# Altium schematic symbol library V_NB-IoT_3.1.SCHLIB: 97 symbols (part 1 of 2)
Pins are listed as number, name and electrical type; pins without a type are passive.

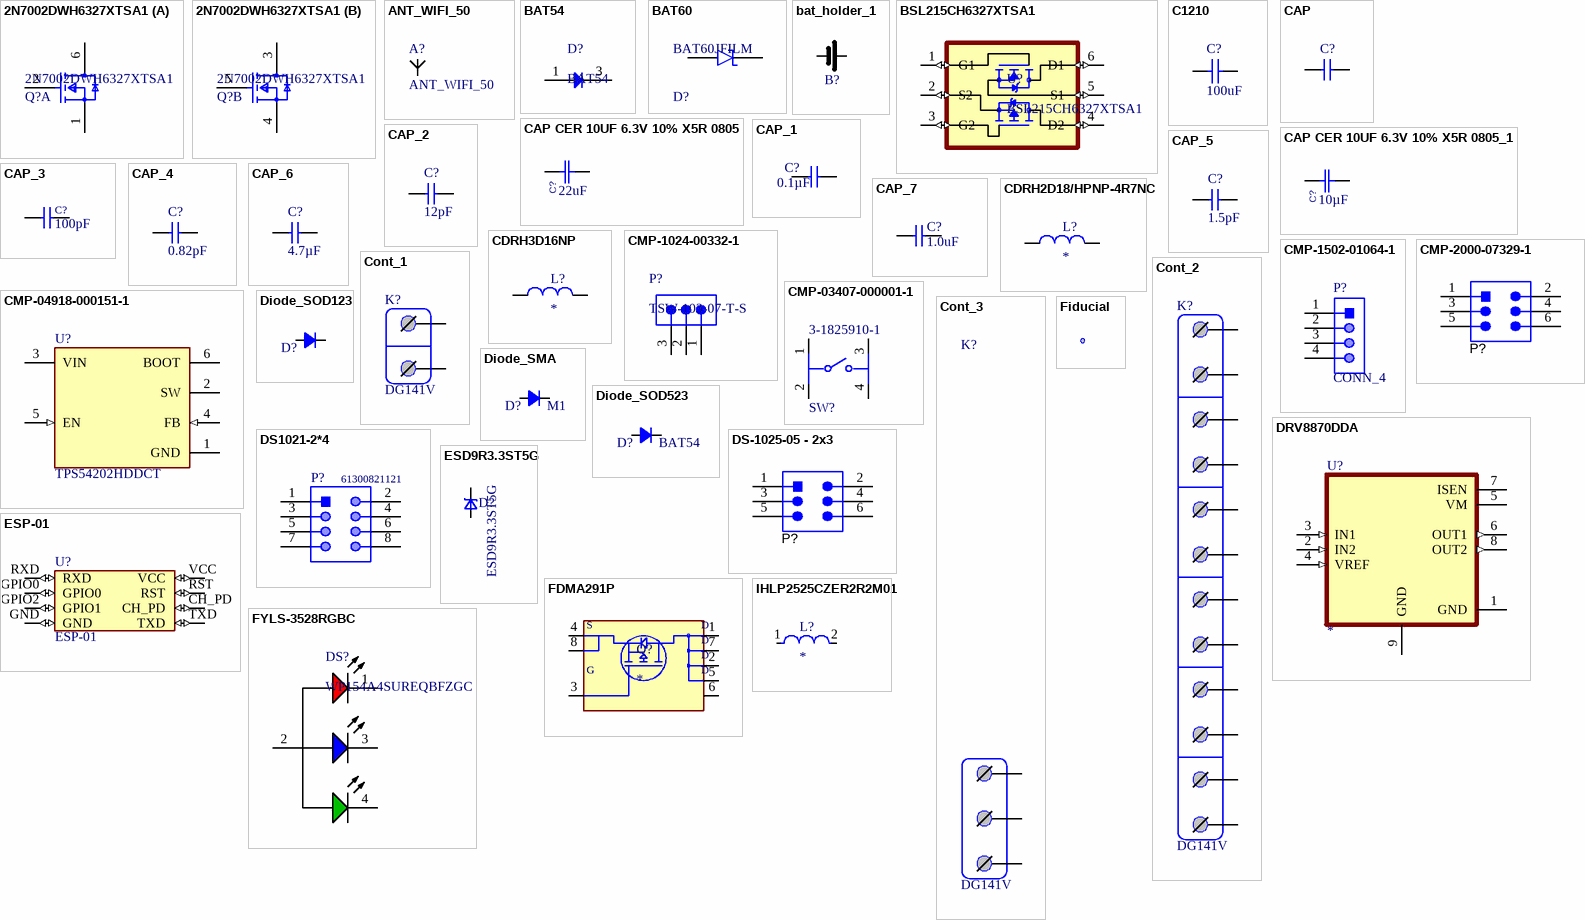
[diagram p0: symbols 2N7002DWH6327XTSA1 to IHLP2525CZER2R2M01]

## 2N7002DWH6327XTSA1
designator Q?
MOSFET 2N-CH 60V 0.3A SOT363; Rise Time: 3.3ns; Turn-On Delay Time: 3ns; Continuous Drain Current (ID): 300mA; FET Type: 2 N-Channel; Input Capacitance: 20pF; Power Dissipation: 500mW; Number of Elements: 2; Gate to Source Voltage (Vgs): 20V; Rds On Max: 3R; Fall Time: 3.1ns; Turn-Off Delay Time: 5.5ns; Mount: Surface Mount; Lead Free: Lead Free; REACH SVHC: No SVHC; Halogen Free: Halogen Free; Drain to Source Voltage (Vdss): 60V; Packaging: Tape and Reel; Max Power Dissipation: 500mW; Number of Pins: 6; Max Dual Supply Voltage: 60V; Case/Package: SOT-363-6; Max Operating Temperature: 150°C; Min Operating Temperature: -55°C
footprint FP-PG-SOT363-6-IPC_B
footprint FP-PG-SOT363-6-IPC_A
footprint FP-PG-SOT363-6-MFG
footprint FP-PG-SOT363-6-IPC_C
part A pins: 1 S1, 2 G1, 6 D1
part B pins: 3 D2, 4 S2, 5 G2

## ANT_WIFI_50
designator A?
footprint AN9520 (wifi antenna)
footprint ANT_WIFI_PCB_1
footprint ANT_BLE_1
footprint ANT_BLE_2
pins: 1 ANT

## BAT54
designator D?
Silicon Schottky Diode, SOT23, Reel, Green; Manufacturer: Infineon; VF (max): 800Â mV; Configuration: Single; IF (max): 200Â mA; CT (max): 10Â pF; Green: TRUE; VR (max): 30Â V; PartNumber: BAT54; ComponentLink2URL: http://www.infineon.com/dgdl/bat54series.pdf?folderId=db3a30431400ef68011425f1ca2505e3&fileId=db3a304314dca3890115190b74210ea6; ComponentLink3Description: Package Specification; PackageVersion: Apr-08; PackageDescription: 3-Pin Small Outline Transistor Package, 1.3 x 2.9 mm Body, 0.95 mm Pitch; ComponentLink1Description: Manufacturer URL; ComponentLink1URL: http://www.infineon.com/; Mounting Technology: Surface Mount; Packing: Reel; ComponentLink2Description: Datasheet; PackageReference: SOT23; ComponentLink3URL: http://www.infineon.com/dgdl/SOT23-Package_Overview.pdf?folderId=db3a30431936bc4b0119532290053c66&fileId=db3a30431936bc4b0119533468123c85
footprint SOT-23
pins: 1 A, 3 K

## BAT60
designator D?, comment BAT60JFILM
DIODE SCHOTTKY 10V 3A SOD323; Max Forward Surge Current (Ifsm): 5A; Forward Voltage: 580mV; Max Reverse Leakage Current: 7.5uA; Element Configuration: Single; Polarity: Standard; Output Current: 3A; Contact Plating: Tin; Package Quantity: 1; Mount: Surface Mount; Min Operating Temperature: -65°C; Average Rectified Current: 3A; Packaging: Tape and Reel; Forward Current: 3A; Height: 1.07mm; Length: 1.8mm; REACH SVHC: No SVHC; Peak Non-Repetitive Surge Current: 5A; Max Surge Current: 5A; Width: 1.45mm; Current Rating: 3A; Lead Free: Lead Free; Radiation Hardening: No; Max Reverse Voltage (DC): 10V; Peak Reverse Current: 7.5uA; Voltage Rating (DC): 10V; Max Operating Temperature: 150°C; Max Repetitive Reverse Voltage (Vrrm): 10V; Number of Pins: 2; Weight: 0.01lb
footprint SOD-323
pins: 1 K, 2 A

## bat_holder_1
designator B?, comment BATTERY CLIP 18MM 18650 CELL  (value not drawn)
Manufacturer: Keystone; Manufacturer Part Number: 54; Note: BATTERY CLIP 18MM 18650 CELL
footprint 12BH092
footprint 12BH092_true
footprint 54_KeyStone
footprint 54_KeyStone_1
pins: + 2 (power), - 0 (power) "battery holder"

## BSL215CH6327XTSA1
designator U?
MOSFET, AEC-Q101, COMPLEMENT N&P, TSOP-6; Manufacturer: Infineon; Manufacturer Part Number: BSL215CH6327XTSA1; Note: MOSFET, AEC-Q101, COMPLEMENT N&P, TSOP-6
footprint SOT95P280X140-6N
pins: 1 G1 (io), 2 S2 (io), 3 G2 (io), 4 D2 (io), 5 S1 (io), 6 D1 (io)

## C1210
designator C?, comment 100uF
Capacitor 1210 100uF ±10% X5R 6,3V; Manufacturer: Samsung; Manufacturer Part Number: CL32A107MQVNNNE; Value: 100uF; Note: Capacitor 1210 100uF ±10% X5R 6,3V
footprint C1210
pins: 1, 2

## CAP
designator C?
footprint CAPC1005X04L
footprint R0603
footprint C0805
footprint C1210
footprint 1206 (Chip Capacitor, 2-Leads, Body 3.5x1.9mm, IPC High Density)
pins: 1, 2

## CAP CER 10UF 6.3V 10% X5R 0805
designator C?, comment Capacitance: 22uF  (hidden comment: 10µF)
CAP CER 10UF 6.3V 10% X5R 0805; Manufacturer: Samsung; Manufacturer Part Number: CL21A106KAYNNNE; Voltage - Rated: 25V; Value: 22uF; Note: Capacitor 0805 10UF 25V X5R 0805; Supplier 1: Digi-Key; Supplier Part Number 1: 399-3138-2-ND; RoHS: RoHS Compliant; Category: Capacitors; Stock 1: 522000; Pricing 1: 3000=0.0484, 6000=0.044, 9000=0.0418, 15000=0.0396, 30000=0.0374, 75000=0.0352, 150000=0.0297 (USD); Tolerance: ±10%; Temperature Coefficient: X5R; Mounting Type: Surface Mount, MLCC; Operating Temperature: -55°C ~ 85°C; Applications: General Purpose; Ratings: -; Package / Case: 0805 (2012 Metric); Size / Dimension: 0.079" L x 0.049" W (2.00mm x 1.25mm); Height - Seated (Max): -; Thickness (Max): 0.055" (1.40mm); Lead Spacing: -; Features: -; Packaging: Tape & Reel (TR); Lead Style: -; ComponentLink1URL: http://www.kemet.com/datasheets&C0805C106K9PACTU; ComponentLink1Description: http://www.kemet.com/datasheets&C0805C106K9PACTU
footprint C0805 (Chip Resistor; Body 2.0 x 1.3 mm (LxW typ))
pins: 1, 2

## CAP CER 10UF 6.3V 10% X5R 0805_1
designator C?, comment 10µF
CAP CER 10UF 6.3V 10% X5R 0805; Manufacturer: Samsung; Manufacturer Part Number: CL21A106KAYNNNE; Voltage - Rated: 25V; Note: Capacitor 0805 10UF 25V X5R 0805; Supplier 1: Digi-Key; Supplier Part Number 1: 399-3138-2-ND; RoHS: RoHS Compliant; Category: Capacitors; Stock 1: 522000; Pricing 1: 3000=0.0484, 6000=0.044, 9000=0.0418, 15000=0.0396, 30000=0.0374, 75000=0.0352, 150000=0.0297 (USD); Tolerance: ±10%; Temperature Coefficient: X5R; Mounting Type: Surface Mount, MLCC; Operating Temperature: -55°C ~ 85°C; Applications: General Purpose; Ratings: -; Package / Case: 0805 (2012 Metric); Size / Dimension: 0.079" L x 0.049" W (2.00mm x 1.25mm); Height - Seated (Max): -; Thickness (Max): 0.055" (1.40mm); Lead Spacing: -; Features: -; Packaging: Tape & Reel (TR); Lead Style: -; ComponentLink1URL: http://www.kemet.com/datasheets&C0805C106K9PACTU; ComponentLink1Description: http://www.kemet.com/datasheets&C0805C106K9PACTU; Capacitance: 10µF
footprint C0805 (Chip Resistor; Body 2.0 x 1.3 mm (LxW typ))
pins: 1, 2

## CAP_1
designator C?, comment 0.1µF
Capacitor, X7R, ±10%; Part Number: C0402-100n; Manufacturer: Samsung; Manufacturer Part Number: CL05A104KA5NNNC; Note: Capacitor 0402 0.1µF ±10% X5R 25V; Artikkelnr Noca: 20039200; Datasheet: *; Footprint: 0402; LatestRevisionDate: 2009-11-23; Pin Count: 2; Publisher: Nordic Semiconductor; Published: 2009-05-08; Value: 0.1µF; Supplier: *; Supplier part number: *; 2nd source Supplier: *; 2nd source part number: *
footprint CAPC1005X04L
pins: 1, 2

## CAP_2
designator C?, comment 12pF
Capacitor, NP0, ±2%; Part Number: C0402-12p; Manufacturer: Samsung; Manufacturer Part Number: CL05C120JB5NNNC; Note: Capacitor 0402 12pF ±2% NP0 50V; Artikkelnr Noca: 20029159; Datasheet: *; Footprint: 0402; LatestRevisionDate: 2011-05-11; Pin Count: 2; Publisher: Nordic Semiconductor; Published: 2009-05-08; Value: 12pF; Supplier: *; Supplier part number: *; 2nd source Supplier: *; 2nd source part number: *
footprint CAPC1005X04L
pins: 1, 2

## CAP_3
designator C?, comment 100pF
Capacitor, X7R, ±10%; Part Number: C0402-100n; Manufacturer: Samsung; Manufacturer Part Number: CL05C101JC51PNC; Note: Capacitor 0402 100pF ±5% NP0 100V; Artikkelnr Noca: 20039200; Datasheet: *; Footprint: 0402; LatestRevisionDate: 2009-11-23; Pin Count: 2; Publisher: Nordic Semiconductor; Published: 2009-05-08; Value: 100pF; Supplier: *; Supplier part number: *; 2nd source Supplier: *; 2nd source part number: *
footprint CAPC1005X04L
pins: 1, 2

## CAP_4
designator C?, comment 0.82pF
Capacitor, NP0, ±0.1pF; Part Number: C0402-1.0p; Manufacturer: Yageo; Manufacturer Part Number: CC0402BRNPO9BNR82; Note: Capacitor 0402 0.82pF ±0,1pF NP0 50V; Artikkelnr Noca: 20029140; Artikkelnr Simpro: N.A.; Datasheet: *; LatestRevisionDate: 2009-11-23; Pin Count: 2; Publisher: Nordic Semiconductor; Published: 2009-05-08; Value: 0.82pF; Supplier: *; Supplier part number: *; 2nd source Supplier: *; 2nd source part number: *; Footprint Doc: 0402
footprint CAPC1005X04L
pins: 1, 2

## CAP_5
designator C?, comment 1.5pF
Inductor 0402 22nH ±5% 400mA; Part Number: C0402-1.5p; Manufacturer: Samsung; Manufacturer Part Number: CL05C1R5CB5NNNC; Artikkelnr Noca: 20029139; Artikkelnr Simpro: N.A.; Datasheet: *; LatestRevisionDate: 2009-11-23; Pin Count: 2; Publisher: Nordic Semiconductor; Published: 2009-05-08; Value: 1.5pF; Note: Inductor 0402 22nH ±5% 400mA; Supplier: *; Supplier part number: *; 2nd source Supplier: *; 2nd source part number: *; Footprint Doc: 0402; Parameter 1: Inductor 0402 22nH ±5% 400mA; Manufacturer: *
footprint CAPC1005X04L
pins: 1, 2

## CAP_6
designator C?, comment 4.7µF
Capacitor, X7R, ±10%; Part Number: C0402-100n; Manufacturer: Samsung; Manufacturer Part Number: CL05A475MQ5NQNC; Note: Capacitor 0402 4.7µF ±20% X5R 6,3V; Artikkelnr Noca: 20039200; Datasheet: *; Footprint: 0402; LatestRevisionDate: 2009-11-23; Pin Count: 2; Publisher: Nordic Semiconductor; Published: 2009-05-08; Value: 4.7µF; Supplier: *; Supplier part number: *; 2nd source Supplier: *; 2nd source part number: *
footprint CAPC1005X04L
pins: 1, 2

## CAP_7
designator C?, comment 1.0uF
Capacitor, X7R, ±10%; Part Number: C0402-47n; Manufacturer: Samsung; Manufacturer Part Number: CL05A105KQ5NNNC; Note: Capacitor 0402 1.0uF ±10% X5R 6,3V; Artikkelnr Noca: 20039389; Datasheet: *; Footprint: 0402; LatestRevisionDate: 2009-05-08; Pin Count: 2; Publisher: Nordic Semiconductor; Published: 2009-05-08; Value: 1.0uF; Supplier: *; Supplier part number: *; 2nd source Supplier: *; 2nd source part number: *; Parameter 1: *
footprint CAPC1005X04L
pins: 1, 2

## CDRH2D18/HPNP-4R7NC
designator L?
4.7ВµH Shielded Inductor 1.2A 140mOhm Max Nonstandard; MF: {'manufacturer': u'Sumida America'}; MP: CDRH2D18/HPNP-4R7NC; Availability: Unavailable; Value: *; Price: None; Package: None
footprint IND_CDRH2D18/HPNP-4R7NC
pins: 1, 2

## CDRH3D16NP
designator L?
10µH Shielded Inductor 550mA 140mOhm Max Nonstandard; Manufacturer: Sumida; Manufacturer Part Number: CDRH3D16NP-100NC; Value: 10uH; Note: 10µH Shielded Inductor 550mA 140mOhm
footprint CDRH3D16NP
pins: 1, 2

## CMP-1024-00332-1
designator P?, comment TSW-103-07-T-S
0.025" SQ Post Header, Through-hole, Vertical, -55 to 105 degC, 2.54 mm Pitch, 3-Pin, Male, RoHS; Manufacturer: Samtec; Pitch: 2.54 mm; ComponentLink1URL: http://www.samtec.com; ComponentLink3URL: http://www.samtec.com/documents/webfiles/cpdf/TSW-XXX-XX-XXX-X-XX-XXX-MKT.pdf; PartNumber: TSW-103-07-T-S; Mounting Technology: Through-hole; RoHS: True; DatasheetVersion: F-214; PackageVersion: DM, 8/1988; Temperature Range: -55 to 105 degC; ComponentLink2Description: Datasheet; ComponentLink1Description: Manufacturer URL; Orientation: Vertical; PackageReference: TSW-103-07-X-S; ComponentLink3Description: Package Specification; ComponentLink2URL: http://www.samtec.com/documents/webfiles/pdf/TSW_TH.PDF; PackageDescription: .025[0.64] SQ. Post Terminal Strip Assembly
footprint SMTC-TSW-103-07-X-S (.025 SQ Post Terminal Strip Assembly, 1x3 Pins, Vertical, 2.54mm Pitch, Male)
pins: 1, 2, 3

## CMP-1502-01064-1
designator P?, comment CONN_4
Manufacturer: Kls Electronics; Manufacturer Part Number: PLS-4; Manufacturer: Wurth Electronics; Manufacturer Part Number: 61300411121; Note: Header 4pin 2.54mm; Category: Connectors
footprint 61300411121 (Pin Header, pitch 2.54 mm, THT, Vertical, single row, 4p)
footprint PBS2-4 (Through Hole Box Connector Strip Assembly, 1x4 Pins, Vertical, 2mm Pitch, Female)
pins: 1, 2, 3, 4

## CMP-2000-07329-1
designator P?, comment TSW-103-07-G-D  (value not drawn)
Through Hole Header, Pitch 2.54 mm, 2 x 3 Position, Height 8.58 mm, Tail Length 2.54 mm, -55 to 125 degC, RoHS, Bulk; Manufacturer: Samtec-Inc.; Manufacturer: Samtec; Number of Positions Loaded: All; Number of Positions: 6; Row Spacing: 0.100"(2.54mm); Connector Type: Header,Unshrouded; Package Reference: TSW-103-07-G-D; Termination: Solder; Manufacturer URL: http://www.samtec.com/; Contact Finish: Gold; Contact Mating Length: 0.230"(5.84mm); Package Description: Through Hole Header, Pitch 2.54 mm, 2 x 3 Position, Height 8.58 mm, Tail Length 2.54 mm; Datasheet Version: 12/2015; Number of Rows: 2; Features: -; Family: RectangularConnectors-Headers,MalePins; Fastening Type: -; Datasheet URL: http://suddendocs.samtec.com/catalog_english/tsw_th.pdf; Category: Connectors,Interconnects; Package URL: http://suddendocs.samtec.com/prints/tsw-xxx-xx-xxx-x-xx-xxx-mkt.pdf; Mounting Type: ThroughHole; Contact Finish Thickness: 10µin(0.25µm); Packaging: Bulk; Color: Black; Pitch: 0.100"(2.54mm); Series: TSW; Contact Type: MalePin; Mounting Technology: ThroughHole; Manufacturer Part Number: TSW-103-07-G-D
footprint SMTC-TSW-103-07-G-D_V (THD, 6-Leads, Body 7.62x5.08mm, Pitch 2.54mm)
pins: 1, 2, 3, 4, 5, 6

## CMP-03407-000001-1
designator SW?, comment 3-1825910-1
SWITCH TACTILE SPST-NO 0.05A 24V; Manufacturer: TE Connectivity; Operating Force: 160gf; Contact Current Rating: 50mA; Contact Resistance: 100mΩ; Electromechanical Life: 100000Cycles; Device Class L1: Electromechanical; ComponentLink2URL: https://www.te.com/commerce/DocumentDelivery/DDEController?Action=srchrtrv&DocNm=1825910&DocType=Customer+Drawing&DocLang=English; Category: Switch; Device Class L2: Switches; Temperature: -35°C to +85°C; RoHS: TRUE; Mount: Through Hole; Manufacturer Part Number: 3-1825910-1; Automotive: No; Lead Free: Yes; Device Class L3: Tactile Switches; ComponentLink2Description: Datasheet; Temperature Range High: +85°C; Height: 17.3mm; Package: 0; Temperature Range Low: -35°C; Throw Configuration: SPST-NO; Digikey Description: SWITCH TACTILE SPST-NO 0.05A 24V; Octopart: https://octopart.com/3-1825910-1-te+connectivity-46506874
footprint FP-3-1825910-1-MFG
pins: 1, 2, 3, 4

## CMP-04918-000151-1
designator U?, comment TPS54202HDDCT
IC REG BUCK ADJ 2A TSOT23-6; Manufacturer: Texas Instruments; Min Output Voltage: 600mV; Switching Frequency: 500kHz; Min Input Voltage: 4.5V; Quiescent Current: 40uA; Number of Outputs: 1; Output Voltage: 26V; Max Input Voltage: 28V; Max Operating Temperature: 125°C; Max Output Voltage: 26V; Number of Pins: 6; Case/Package: SOT-6; REACH SVHC: No SVHC; Packaging: Cut Tape; Lead Free: Lead Free; Min Operating Temperature: -40°C; Output Current: 2A; Manufacturer Part Number: TPS54202HDDCT
footprint FP-DDC0006A-MFG
footprint FP-DDC0006A-IPC_C
footprint FP-DDC0006A-IPC_B
footprint FP-DDC0006A-IPC_A
pins: 1 GND (power), 2 SW, 3 VIN (power), 4 FB (in), 5 EN (in), 6 BOOT

## Cont_1
designator K?, comment DG141V
Terminal DG141V-2.54-02P-14-00A(H); Manufacturer: Degson; Note: Terminal DG141V-2.54-02P-14-00A(H); Manufacturer Part Number: DG141V-2.54-02P-14-00A(H)
footprint DG141V_4
pins: 1, 2

## Cont_2
designator K?, comment DG141V
Terminal DG141V-2.54-02P-14-00A(H); Manufacturer: Degson; Note: Terminal DG141V-2.54-02P-14-00A(H); Manufacturer Part Number: DG141V-2.54-02P-14-00A(H)
footprint DG141V_12
pins: 1, 2, 3, 4, 5, 6, 7, 8, 9, 10, 11, 12

## Cont_3
designator K?, comment DG141V
Terminal DG141V-2.54-03P-14-00A(H); Manufacturer: Degson; Note: Terminal DG141V-2.54-02P-14-00A(H); Manufacturer Part Number: DG141V-2.54-03P-14-00A(H)
footprint DG141V_3P
pins: 1, 2, 3

## Diode_SMA
designator D?, comment M1
SMA Diode; Manufacturer Part Number: China; Note: M1; Value: M1
footprint SMA-2-403D-02_V (Molded, 2-Leads, Body 4.57x2.92mm)
pins: 1 K, 2 A

## Diode_SOD123
designator D?
Schottky diode SOD123; Note: Schottky diode  SOD123
footprint SOD-123
pins: 1 A, 2 K

## Diode_SOD523
designator D?, comment BAT54
Schottky diode BAT54 SOD523; Manufacturer: ON; Manufacturer Part Number: BAT54XV2T5G; Note: Schottky diode BAT54 SOD523; Value: BAT54
footprint SOD-523
pins: 1 A, 2 K

## DRV8870DDA
designator U?
MP: DRV8870DDA; MF: {'manufacturer': u'Texas Instruments'}; Package: None; Price: None; Value: *; Availability: Unavailable
footprint PSOP8
pins: 1 GND (power), 2 IN2 (in), 3 IN1 (in), 4 VREF (in), 5 VM (power), 6 OUT1 (out), 7 ISEN (power), 8 OUT2 (out), 9 GND (power)

## DS1021-2*4
designator P?, comment 61300821121
THT Vertical Pin Header WR-PHD, Pitch 2.54 mm, Dual Row, 8 pins; Manufacturer Part Number: DS1021-2*4; Manufacturer: Wurth Elektronik; Note: Vertical Pin Header WR-PHD, Pitch 2.54 mm, Dual Row, 8 pins
footprint 61300821121 (Pin Header, pitch 2.54 mm, THT, Vertical, dual row, 8p)
pins: 1, 2, 3, 4, 5, 6, 7, 8

## DS-1025-05 - 2x3
designator P?, comment TSW-103-07-G-D  (value not drawn)
Through Hole Header, Pitch 2.54 mm, 2 x 3 Position, Height 8.58 mm, Tail Length 2.54 mm, -55 to 125 degC, RoHS, Bulk; Manufacturer: Samtec-Inc.; Manufacturer: Samtec; Number of Positions Loaded: All; Number of Positions: 6; Row Spacing: 0.100"(2.54mm); Connector Type: Header,Unshrouded; Package Reference: TSW-103-07-G-D; Termination: Solder; Manufacturer URL: http://www.samtec.com/; Contact Finish: Gold; Contact Mating Length: 0.230"(5.84mm); Package Description: Through Hole Header, Pitch 2.54 mm, 2 x 3 Position, Height 8.58 mm, Tail Length 2.54 mm; Datasheet Version: 12/2015; Number of Rows: 2; Features: -; Family: RectangularConnectors-Headers,MalePins; Fastening Type: -; Datasheet URL: http://suddendocs.samtec.com/catalog_english/tsw_th.pdf; Category: Connectors,Interconnects; Package URL: http://suddendocs.samtec.com/prints/tsw-xxx-xx-xxx-x-xx-xxx-mkt.pdf; Mounting Type: ThroughHole; Contact Finish Thickness: 10µin(0.25µm); Packaging: Bulk; Color: Black; Pitch: 0.100"(2.54mm); Series: TSW; Contact Type: MalePin; Mounting Technology: ThroughHole; Manufacturer Part Number: TSW-103-07-G-D
footprint DS-1025-05 - 2x3
pins: 1, 2, 3, 4, 5, 6

## ESD9R3.3ST5G
designator D?
7.8V Clamp 1A (8/20µs) Ipp Tvs Diode Surface Mount SOD-923; Manufacturer: ON; Note: 7.8V Clamp 1A (8/20µs) Ipp Tvs Diode Surface Mount SOD-923; Manufacturer Part Number: ESD9R3.3ST5G
footprint SOD-923
pins: A, K

## ESP-01
designator U?
MF: {'manufacturer': u'AI-Thinker'}; Value: *; Package: None; MP: ESP-01; Price: None; Availability: Unavailable
footprint ESP-01
pins: CH_PD (io), GND (io), GPIO0 (io), GPIO2 GPIO1 (io), RST (io), RXD (io), TXD (io), VCC (io)

## FDMA291P
designator Q?
Single P-Channel 1.8V Specified PowerTrench MOSFET (-6.6A, -20V); MF: {'manufacturer': u'ON Semiconductor'}; MP: FDMA291P; Package: None; Price: None; Value: *; Availability: Unavailable
footprint MICROFET
pins: 1 D1 (power), 2 D2 (power), 3 G, 4 S1 (power), 5 D3 (power), 6 D4 (power), 7 D1 (power), 8 S1 (power)
text: S; D

## Fiducial
designator e?  (value not drawn)
footprint Fiducial

## FYLS-3528RGBC
designator DS?, comment WP154A4SUREQBFZGC
Full Color LED Lamp, Dominant Wavelength RGB 630 / 525 / 465 nm, -40 to 85 degC, 4-Pin THD, RoHS; Manufacturer: Kingbright; Viewing Angle: 50°; Wavelength - Dominant: 630nm,525nm,465nm; Online Catalog: 5mm,T-13/4(RGB)RoundwithDomedTopLEDLamp; Millicandela Rating: 1300mcdRed,1700mcdGreen,900mcdBlue; Other Names: 754-1615 / WP154A4SUREQBFZGC-ND; Current - Test: 20mA; Wavelength - Peak: 645nm,515nm,460nm; Color: Red,Green,Blue(RGB); Voltage - Forward (Vf) (Typ): 1.9VRed,3.3VGreen,3.3VBlue; Lens Type: Clear; 3D Model: WP154A4SUREQBFZGW.sldprt / WP154A4SUREQBFZGW.pro / WP154A4SUREQBFZGW.igs / WP154A4SUREQBFZGW.stp; Lens Style/Size: RoundwithDomedTop,5mm,T-13/4; Packaging: Bulk; Datasheet URL: https://www.kingbrightusa.com/images/catalog/spec/WP154A4SUREQBFZGC.pdf; Family: LEDIndication-Discrete; Datasheet Version: Rev. 5A, 08/2014; Category: Optoelectronics; Manufacturer URL: http://www.kingbright.com/; Height: 8.60mm; Mounting Type: ThroughHole; Package Reference: WP154A4SUREQBFZGC; Mounting Technology: ThroughHole; Package Description: 4-Pin Through Hole LED, Dia 5.9 mm, Pitch 1.27 mm; Standard Package: 500; Package / Case: Radial-4Leads
footprint FYLS-3528RGBC
pins: 1 RED, 2 CATHODE, 3 BLUE, 4 GREEN

## IHLP2525CZER2R2M01
designator L?
2.2ВµH Shielded Molded Inductor 8A 20mOhm Max Nonstandard; MP: IHLP2525CZER2R2M01; MF: {'manufacturer': u'Vishay Dale'}; Package: None; Price: None; Availability: Unavailable; Value: *
footprint INDM686X647X300N
pins: 1, 2

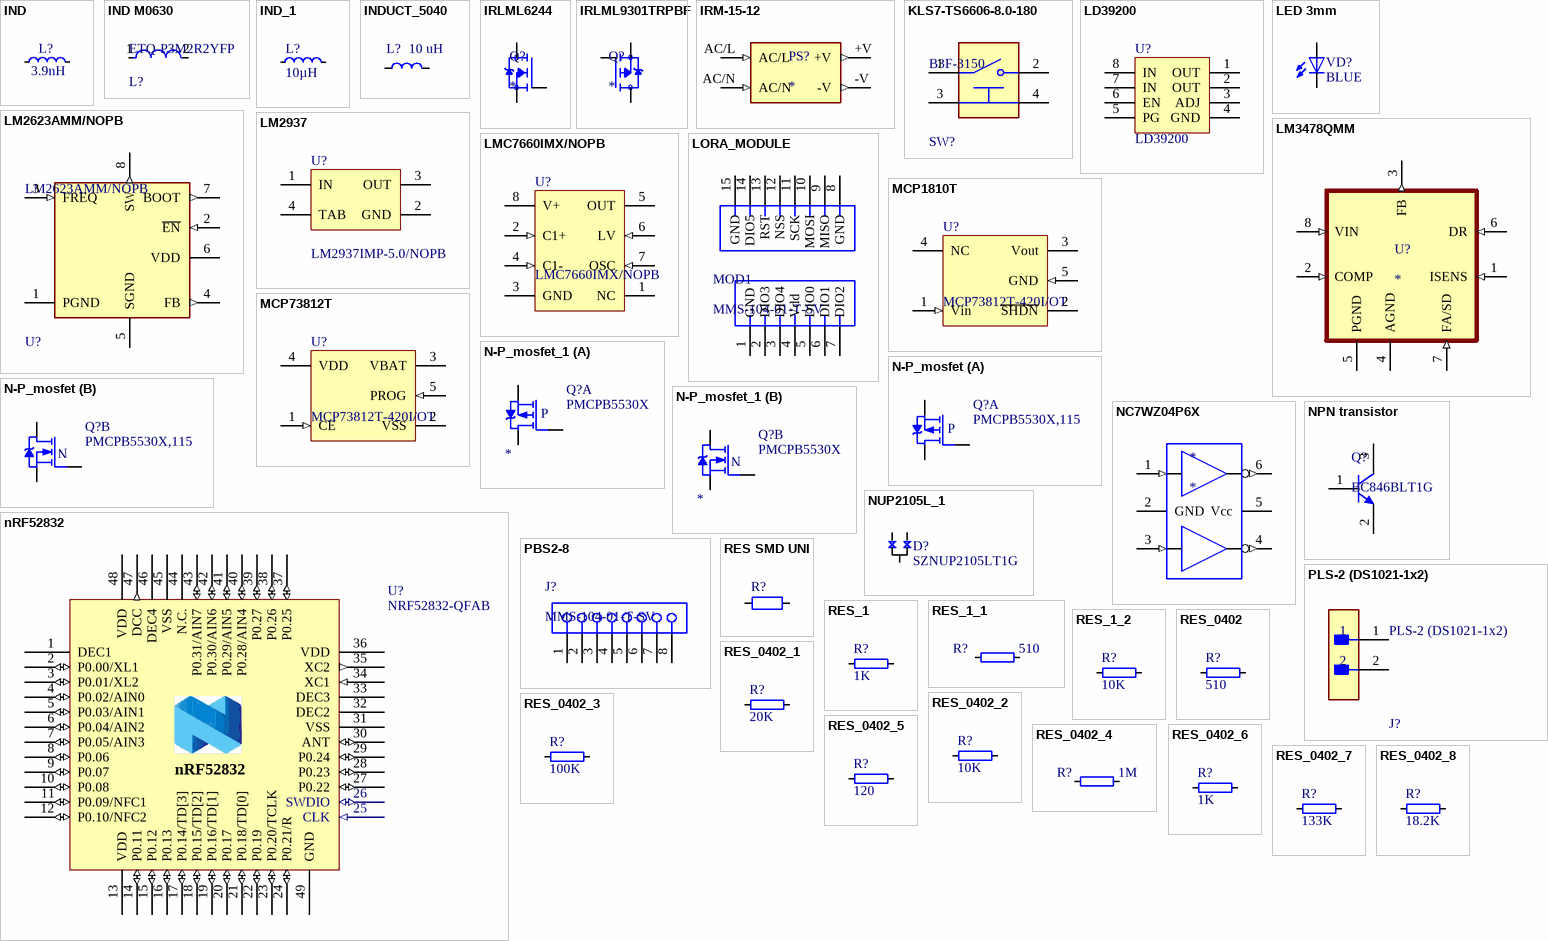
[diagram p1: symbols IND to RES_0402_8]

## IND
designator L?, comment 3.9nH
Inductor, 190mA, ±0.1nH; Part Number: L0402-3n3; Manufacturer: Murata; Manufacturer Part Number: LQP15MN3N9B02D; Note: Inductor 0402 3,9nH ±0,1 190mA 500mOm; Artikkelnr Noca: 33029369; Artikkelnr Simpro: N.A.; Datasheet: http://search.murata.co.jp/Ceramy/image/img/PDF/ENG/L0075S0084LQP15M.pdf; LatestRevisionDate: 2012-09-19; Pin Count: 2; Publisher: Nordic Semiconductor; Published: 2009-05-08; Value: 3.9nH; Supplier: Digi-Key; Supplier part number: 490-1130-1-ND; 2nd source Supplier: *; 2nd source part number: *; Footprint Doc: 0402
footprint INDC1005X04L
pins: 1, 2

## IND M0630
designator L?, comment ETQ-P3M2R2YFP
FIXED IND 2.2UH 5.8A 24.8 MOHM; Manufacturer: Panasonic; Tolerance: 20%; Automotive Grade: Grade 0; Standoff Height: 0.05mm; Series Resistance: 24.8mΩ; Core Material: Metal Composite; Test Frequency: 100kHz; Saturation Current: 10.9A; Rms Current: 4.8A; Shielding: true; Temperature Range Low: -40°C; Category: Ind; Temperature: -40°C to +150°C; Lead Free: Yes; Temperature Range High: +150°C; Height: 3mm; Manufacturer Part Number: ETQ-P3M2R2YFP; Value: 2.2uH; Device Class L3: Fixed Inductors; Automotive: Yes; Inductance: 2.2uH; Device Class L2: Inductors; ComponentLink2URL: https://industrial.panasonic.com/cdbs/www-data/pdf/AGL0000/AGL0000C59.pdf; ComponentLink2Description: Datasheet; Octopart: https://octopart.com/etqp3m2r2yfp-panasonic-65686337; Device Class L1: Passive Components; Digikey Description: FIXED IND 2.2UH 5.8A 24.8 MOHM; RoHS: TRUE; Package: PCC-M0530M
footprint M0530M-MFG
pins: 1, 2

## IND_1
designator L?, comment 10µH
Inductor, 80mA, ±10%; Part Number: L0603-10µ; Manufacturer: Taiyo Yuden; Manufacturer Part Number: LBMF1608T100K; 2nd source part number: 178-6105; Note: Inductor 10uH 10% 80mA 360mOhm 0603; Artikkelnr Noca: 33029314; Datasheet: http://www.yuden.co.jp/ut/product/pdf/elb2_e.pdf; Footprint: 0603; LatestRevisionDate: 2012-09-19; Pin Count: 2; Publisher: Nordic Semiconductor; Published: 2010-02-24; Value: 10µH; Supplier: Digi-Key; Supplier part number: 587-1714-1-ND; 2nd source Supplier: Farnell
footprint INDC1608X06L
pins: 1, 2

## INDUCT_5040
designator L?, comment 10 uH
Inductor 4,7uH 20% 3A 40.3 MOHM; Manufacturer: Taiyo Yuden; Manufacturer Part Number: NR6028T4R7M; Note: Inductor 4,7uH 20% 3A 40.3 MOHM
footprint SRN5040
footprint INDUCT_6028
pins: 1, 2

## IRLML6244
designator Q?
MOSFET P-CH 30V 3.6A SOT-23-3; MF: {'manufacturer': u'Infineon Technologies'}; MP: IRLML9301TRPBF; Package: None; Price: None; Value: *; Availability: Unavailable
footprint SOT-23
pins: 1 G, 2 S, 3 D

## IRLML9301TRPBF
designator Q?
MOSFET P-CH 30V 3.6A SOT-23-3; MF: {'manufacturer': u'Infineon Technologies'}; MP: IRLML9301TRPBF; Package: None; Price: None; Value: *; Availability: Unavailable
footprint SOT-23
pins: 1 G, 2 S, 3 D

## IRM-15-12
designator PS?
Mean Well Open Frame Power Supply | IRM-15 Series | IRM-15-12 | 15 watts | 12 volts; MF: {'manufacturer': u'MEAN WELL'}; Value: *; Package: None; Price: None; MP: IRM-15-12; Availability: Unavailable
footprint CONV_IRM-15-12
pins: +V (out), -V (out), AC/L (in), AC/N (in)

## KLS7-TS6606-8.0-180
designator SW?, comment B3F-3150
SWITCH TACTILE SPST-NO 0.05A 24V; Manufacturer: Omron; Contact Current Rating: 50mA; Electromechanical Life: 1000000Cycles; Contact Resistance: 100mΩ; Operating Force: 0.98N; Octopart: https://octopart.com/b3f-3150-omron-49234; Device Class L1: Electromechanical; Device Class L2: Switches; Temperature Range Low: -25°C; Temperature Range High: +70°C; Mouser Description: Tactile Switches R/A 6X6 6.15mm BTN; Temperature: -25°C to +70°C; Voltage Rating Dc: 24V; Automotive: No; Ambient Temperature Range Low: -25°C; Ambient Temperature Range High: +70°C; Mount: Through Hole; ComponentLink2URL: https://omronfs.omron.com/en_US/ecb/products/pdf/en-b3f.pdf; RoHS: TRUE; ComponentLink2Description: Datasheet; Digikey Description: SWITCH TACTILE SPST-NO 0.05A 24V; Package: 0; Height: 7.8mm; Throw Configuration: SPST-NO; Lead Free: Yes; Device Class L3: Tactile Switches; Category: Switch; Manufacturer Part Number: B3F-3150
footprint FP-B3F-3150-MFG
pins: 1, 2, 3 MNT 1, 4 MNT 2

## LD39200
designator U?
LDO ADJ 2A 8-DFN (4x4); Manufacturer: ST; Manufacturer Part Number: LD39200DPUR; Note: LDO ADJ 2A 8-DFN (4x4)
footprint DFN8
pins: 1 OUT, 2 OUT, 3 ADJ, 4 GND, 5 PG, 6 EN, 7 IN, 8 IN, 9 PG

## LED 3mm
designator VD?, comment BLUE
<b>Low Current (2mA) LED 3 mm Tinted Diffused Package</b> color <b><font color="green">GREEN</font></b><p> Source: <a href="http://www.farnell.com/datasheets/391098.pdf"> Data sheet</a>; MF: {'manufacturer': u'Vishay Semiconductor'}; MP: TLLG4400; Price: None; Value: *; Availability: Unavailable; Package: None
footprint Type 3mm (THT, LED-3mm, 2pin- Body 4.15mm(max))
pins: A, K C

## LM2623AMM/NOPB
designator U?
IC REG BOOST ADJ 2.2A 8VSSOP; Switching Frequency: 2MHz; Max Input Voltage: 14V; Output Power: 500mW; Efficiency: 87%; Nominal Supply Current: 16mA; Min Input Voltage: 800mV; Output Type: Adjustable; Quiescent Current: 80uA; Number of Outputs: 1; Output Configuration: Positive; Synchronous Rectifier: No; Output Current: 2A; Min Output Voltage: 1.24V; Lead Free: Lead Free; Packaging: Tape and Reel; Weight: 0.004938oz; Height: 0.86mm; Number of Pins: 8; Topology: Boost; Length: 3mm; Min Operating Temperature: -40°C; Package Quantity: 1000; REACH SVHC: No SVHC; Mount: Surface Mount; Max Operating Temperature: 85°C; Min Supply Voltage: 800mV; Radiation Hardening: No; Max Output Current: 2A; Case/Package: MSOP; Output Voltage: 14V; Series: -; Max Output Voltage: 14V; Width: 3.1mm
footprint VSSOP8
pins: 1 PGND (power), 2 ~{EN} (in), 3 FREQ (in), 4 FB (out), 5 SGND (power), 6 VDD (power), 7 BOOT (out), 8 SW (out)

## LM2937
designator U?, comment LM2937IMP-5.0/NOPB
500 mA Low Dropout Regulator, 4-pin SOT-223, Pb-Free; Manufacturer: Texas Instruments; PowerWise: N; CompType: LDO IC; PackageTopMarking: XYTT*L71B; Code_IPC: SOT223-4; ComponentLink1Description: Datasheet URL; ComponentLink1URL: http://www.ti.com/general/docs/lit/getliterature.tsp?genericPartNumber=LM2937&fileType=pdf; PackageDescription: Molded SOT-223, 6.50 x 3.56 x 1.6mm Body, 4 Lead, 2.3mm Pitch; PinCount: 4; RoHS: Y; PackageReference: DCY0004A; Code_JEDEC: TO-261-AA
footprint DCY0004A_L (SOT223, 4-Leads, Body 6.7x3.7mm, Pitch 2.3mm, IPC High Density)
pins: 1 IN (power), 2 GND (power), 3 OUT (power), 4 TAB (power)

## LM3478QMM
designator U?
MP: LM3478QMM/NOPB; MF: {'manufacturer': u'Texas Instruments'}; Price: None; Value: *; Package: None; Availability: Unavailable
footprint VSSOP8
pins: 1 ISENS (in), 2 COMP (in), 3 FB (out), 4 AGND (power), 5 PGND (power), 6 DR (in), 7 FA/SD (in), 8 VIN (in)

## LMC7660IMX/NOPB
designator U?
Switched Capacitor Voltage Converter, 8-pin Narrow SOIC, Pb-Free; Manufacturer: Texas Instruments; PowerWise: N; CompType: Switch Caps; PackageTopMarking: NSZXTT*LMC76*60IM; Code_IPC: SOIC127P600-8; Code_JEDEC: MS-012-AA; PackageReference: D0008A; RoHS: Y; ComponentLink1URL: http://www.ti.com/general/docs/lit/getliterature.tsp?genericPartNumber=LMC7660&fileType=pdf; PinCount: 8; PackageDescription: SOIC Narrow, 4.9 x 3.9 x 1.45mm, 8 Lead, 1.27mm Pitch; ComponentLink1Description: Datasheet URL
footprint SO8
pins: 1 NC, 2 C1+ (in), 3 GND (power), 4 C1- (in), 5 OUT (power), 6 LV (in), 7 OSC (in), 8 V+ (power)

## LORA_MODULE
designator MOD1, comment MMS-104-01-T-SV
Tiger Claw(TM) Socket Strip, Through-hole, Vertical, -55 to 105 degC, 2 mm Pitch, 4-Pin, Female, RoHS; Manufacturer: Samtec; Pitch: 2 mm; PackageDescription: 2mm Through Hole Box Connector Strip Assembly; DatasheetVersion: F-214; ComponentLink1URL: http://www.samtec.com; RoHS: True; Temperature Range: -55 to 105 degC; ComponentLink1Description: Manufacturer URL; PartNumber: MMS-104-01-T-SV; Mounting Technology: Through-hole; ComponentLink2Description: Datasheet; Orientation: Vertical; ComponentLink2URL: http://www.samtec.com/documents/webfiles/pdf/MMS.PDF; ComponentLink3Description: Package Specification; ComponentLink3URL: http://www.samtec.com/documents/webfiles/cpdf/MMS-1XX-01-XXX-XX-XXX-MKT1.pdf; PackageVersion: AO, 2/1993; PackageReference: MMS-104-01-X-SV
footprint LORA MODULE (Through Hole Box Connector Strip Assembly, 1x4 Pins, Vertical, 2mm Pitch, Female)
pins: 1 GND, 2 DIO3, 3 DIO4, 4 Vdd, 5 DIO0, 6 DIO1, 7 DIO2, 8 GND, 9 MISO, 10 MOSI, 11 SCK, 12 NSS, 13 RST, 14 DIO5, 15 GND

## MCP1810T
designator U?, comment MCP73812T-420I/OT
Simple, Miniature Single-Cell, Fully Integrated Li-Ion/Li-Polymer Charge Management Controller, 4.2V, 5-Pin SOT-23, Industrial Temperature, Tape and Reel; PackageReference: SOT-23-OT5; PackageVersion: revBB, Aug-2009; PackageDescription: 5-Lead Plastic Small Outline Transistor (OT) [SOT-23]; Code_IPC: SOT23-5; DatasheetVersion: revB, Sep-2007
footprint SOT-23-OT5_L (SOT23, 5-Leads, Body 2.9x1.7mm, Pitch 0.95mm, Lead Span 2.8mm, IPC High Density)
pins: 1 Vin (in), 2 ~{SHDN} (power), 3 Vout (power), 4 NC (power), 5 GND (in)

## MCP73812T
designator U?, comment MCP73812T-420I/OT
Simple, Miniature Single-Cell, Fully Integrated Li-Ion/Li-Polymer Charge Management Controller, 4.2V, 5-Pin SOT-23, Industrial Temperature, Tape and Reel; PackageReference: SOT-23-OT5; PackageVersion: revBB, Aug-2009; PackageDescription: 5-Lead Plastic Small Outline Transistor (OT) [SOT-23]; Code_IPC: SOT23-5; DatasheetVersion: revB, Sep-2007
footprint SOT-23-OT5_L (SOT23, 5-Leads, Body 2.9x1.7mm, Pitch 0.95mm, Lead Span 2.8mm, IPC High Density)
pins: 1 CE (in), 2 VSS (power), 3 VBAT (power), 4 VDD (power), 5 PROG (in)

## N-P_mosfet
designator Q?, comment PMCPB5530X,115
MOSFET N/P-CH 20V 6HUSON; Manufacturer: NXP; Manufacturer Part Number: PMCPB5530X,115; Note: MOSFET N/P-CH 20V 6HUSON
footprint DFN2020-6
part A pins: 3 Dp, 4 Sp, 5 Gp, 8 Dp
part B pins: 1 Sn, 2 Gn, 6 Dn, 7 Dn
part A text: P
part B text: N

## N-P_mosfet_1
designator Q?, comment PMCPB5530X
MOSFET N/P-CH 20V 6HUSON; Value: PMCPB5530X; Note: MOSFET N/P-CH 20V 6HUSON; Parameter 1: *
footprint DFN2020-6
part A pins: 3 Dp, 4 Sp, 5 Gp, 8 Dp
part B pins: 1 Sn, 2 Gn, 6 Dn, 7 Dn
part A text: P
part B text: N

## NC7WZ04P6X
designator *
footprint FAIR-SC70-6_V (SC70, 6-Leads, Body 2x1.25mm, Pitch 0.65mm)
pins: 1 A1 (in) "Input", 2 GND, 3 A2 (in) "Input", 4 Y2 (out) "Output", 5 Vcc, 6 Y1 (out) "Output"

## NPN transistor
designator Q?, comment BC846BLT1G
General Purpose Transistor, NPN Silicon, 3-Pin SOT-23, Pb-Free, Tape and Reel; Manufacturer: On Semiconductor; fT Min (MHz): 100; IC Continuous (A): 0.1; Mounting Technology: Surface Mount; ComponentLink1Description: Manufacturer URL; ComponentLink2Description: Datasheet; Polarity: NPN; ComponentLink3URL: http://www.onsemi.cn/pub_link/Collateral/318-08.PDF; DatasheetVersion: Rev. 11; ComponentLink3Description: Package Specification; PartNumber: BC846BLT1G; RoHS: TRUE; PackageDescription: 3-Pin Small Outline Transistor, Body 2.92 x 1.3 mm, Pitch 0.95 mm; PackageReference: SOT-23-3-318-08; ComponentLink2URL: http://www.onsemi.cn/pub_link/Collateral/BC846ALT1-D.PDF; PackageVersion: Rev. AP, 11/2009; ComponentLink1URL: http://www.onsemi.com/; Packing: Tape and Reel
footprint SOT-23
pins: 1 B, 2 E, 3 C

## nRF52832
designator U?, comment NRF52832-QFAB
Bluetooth SOC NRF52832 QFN-48 256K 32K; Manufacturer: Nordic; Note: Bluetooth SOC NRF52832 QFN-48 256K 32K; Manufacturer Part Number: NRF52832-QFAB
footprint QFN40P600X600X90-48N
footprint QFN48_tent_top
pins: 1 DEC1 (power), 2 P0.00/XL1 (io), 3 P0.01/XL2 (io), 4 P0.02/AIN0 (io), 5 P0.03/AIN1 (io), 6 P0.04/AIN2 (io), 7 P0.05/AIN3 (io), 8 P0.06 (io), 9 P0.07 (io), 10 P0.08 (io), 11 P0.09/NFC1 (io), 12 P0.10/NFC2 (io), 13 VDD (power), 14 P0.11 (io), 15 P0.12 (io), 16 P0.13 (io), 17 P0.14/TD[3] (io), 18 P0.15/TD[2] (io), 19 P0.16/TD[1] (io), 20 P0.17 (io), 21 P0.18/TD[0] (io), 22 P0.19 (io), 23 P0.20/TCLK (io), 24 P0.21/R (io), 25 CLK (in), 26 SWDIO (io), 27 P0.22 (io), 28 P0.23 (io), 29 P0.24 (io), 30 ANT (io), 31 VSS (power), 32 DEC2 (power), 33 DEC3 (power), 34 XC1 (in), 35 XC2 (out), 36 VDD (power), 37 P0.25 (io), 38 P0.26 (io), 39 P0.27 (io), 40 P0.28/AIN4 (io), 41 P0.29/AIN5 (io), 42 P0.30/AIN6 (io), 43 P0.31/AIN7 (io), 44 N.C. (power), 45 VSS (power), 46 DEC4 (power), 47 DCC (out), 48 VDD (power), 49 GND (power)

## NUP2105L_1
designator D?, comment SZNUP2105LT1G
TVS DIODE 24V 44V CAN SOT23-3; Manufacturer: ON; Note: TVS DIODE 24V 44V CAN SOT23-3; Manufacturer Part Number: SZNUP2105LT1G
footprint SOT-23
pins: 1, 2, 3

## PBS2-8
designator J?, comment MMS-104-01-T-SV
Tiger Claw(TM) Socket Strip, Through-hole, Vertical, -55 to 105 degC, 2 mm Pitch, 4-Pin, Female, RoHS; Manufacturer: Samtec; Pitch: 2 mm; PackageDescription: 2mm Through Hole Box Connector Strip Assembly; DatasheetVersion: F-214; ComponentLink1URL: http://www.samtec.com; RoHS: True; Temperature Range: -55 to 105 degC; ComponentLink1Description: Manufacturer URL; PartNumber: MMS-104-01-T-SV; Mounting Technology: Through-hole; ComponentLink2Description: Datasheet; Orientation: Vertical; ComponentLink2URL: http://www.samtec.com/documents/webfiles/pdf/MMS.PDF; ComponentLink3Description: Package Specification; ComponentLink3URL: http://www.samtec.com/documents/webfiles/cpdf/MMS-1XX-01-XXX-XX-XXX-MKT1.pdf; PackageVersion: AO, 2/1993; PackageReference: MMS-104-01-X-SV
footprint PBS2-8 (Through Hole Box Connector Strip Assembly, 1x4 Pins, Vertical, 2mm Pitch, Female)
pins: 1, 2, 3, 4, 5, 6, 7, 8

## PLS-2 (DS1021-1x2)
designator J?
CONN HEADER VERT 2POS 2.54MM; Manufacturer: Harwin; Manufacturer Part Number: M20-9990246; Conn Gender: Male; Conn Orientation: Vertical; Number Of Contacts: 2; Current Rating: 3A; ComponentLink2URL: https://cdn.harwin.com/pdfs/M20-999.pdf; ComponentLink2Description: Datasheet; Package: M20-9990246; Temperature: -40°C to +105°C; Octopart: https://octopart.com/m20-9990246-harwin-2590635; Mouser Description: 2.54mm (0.1") Pitch SIL Vertical PC Tail Pin Header, 6.1mm mating pin height, tin, 2 contacts; Temperature Range High: +105°C; Device Class L1: Connectors; RoHS: TRUE; Automotive: No; Height: 8.99mm; Number Of Rows: 1; Contact Material: Tin,Nickel; Category: Conn; Pitch: 2.54mm; Lead Free: Yes; Digikey Description: CONN HEADER VERT 2POS 2.54MM; Temperature Range Low: -40°C; Device Class L3: unset; Device Class L2: Headers and Wire Housings
footprint PLS-2(DS1021-1x2)
pins: 1, 2

## RES SMD UNI
designator R?
Resistor SMD; Category: Resistors
footprint R0603 (Chip Capacitor; Body 1.6 x 0.8 mm (LxW typ))
footprint C0805
footprint R2512
footprint C1210
footprint RESC1005X04L
footprint 1206 (Chip Capacitor, 2-Leads, Body 3.5x1.9mm, IPC High Density)
pins: 1, 2

## RES_1
designator R?, comment 1K
Resistor, ±1%, 0.063W; Part Number: R0402-220; Manufacturer: Yageo; Manufacturer Part Number: RC0402JR-071KL; Note: Resistor 0402 1K ±1% 0.063W; Artikkelnr Noca: 27049057; Artikkelnr Simpro: N.A.; Datasheet: *; LatestRevisionDate: 2009-11-23; Pin Count: 2; Publisher: Nordic Semiconductor; Published: 2009-05-08; Value: 1K; Supplier: Farnell; Supplier part number: RC0402JR-071KL; 2nd source Supplier: *; 2nd source part number: *; Footprint Doc: 0402
footprint RESC1005X04L
pins: 1, 2

## RES_1_1
designator R?, comment 510
Resistor, ±1%, 0.063W; Part Number: R0402-220; Manufacturer: Yageo; Manufacturer Part Number: RC0402FR-07510RL; Note: Resistor 0402 510 ±1% 0.063W; Artikkelnr Noca: 27049057; Artikkelnr Simpro: N.A.; Datasheet: *; LatestRevisionDate: 2009-11-23; Pin Count: 2; Publisher: Nordic Semiconductor; Published: 2009-05-08; Value: 510; Supplier: Farnell; Supplier part number: 173-8841; 2nd source Supplier: *; 2nd source part number: *; Footprint Doc: 0402
footprint RESC1005X04L
pins: 1, 2

## RES_1_2
designator R?, comment 10K
Resistor, ±1%, 0.063W; Part Number: RC0402FR-0710KL; Manufacturer: Yageo; Note: Resistor 0402 10K ±1% 0.063W; Artikkelnr Noca: 27049057; Artikkelnr Simpro: N.A.; Manufacturer Part Number: RC0402FR-0710KL; Datasheet: *; LatestRevisionDate: 2009-11-23; Pin Count: 2; Publisher: Nordic Semiconductor; Published: 2009-05-08; Value: 10K; Supplier: Farnell; Supplier part number: 173-8841; 2nd source Supplier: *; 2nd source part number: *; Footprint Doc: 0402
footprint RESC1005X04L
pins: 1, 2

## RES_0402
designator R?, comment 510
Resistor, ±1%, 0.063W; Part Number: R0402-39R; Manufacturer: Yageo; Manufacturer Part Number: RC0402FR-07510RL; Note: Resistor 0402 510 ±1% 0.063W; Artikkelnr Noca: 27049039; Value: 510; Datasheet: *; Footprint: 0402; LatestRevisionDate: 2009-11-23; Pin Count: 2; Publisher: Nordic Semiconductor; Published: 2009-05-08; Supplier: Farnell; Supplier part number: 173-8831; 2nd source Supplier: *; 2nd source part number: *
footprint RESC1005X04L
pins: 1, 2

## RES_0402_1
designator R?, comment 20K
Resistor, ±1%, 0.063W; Part Number: R0402-39R; Manufacturer: Yageo; Manufacturer Part Number: RC0402FR-0730K1L; Note: Resistor 0402 20K ±1% 0.063W; Artikkelnr Noca: 27049039; Value: 20K; Datasheet: *; Footprint: 0402; LatestRevisionDate: 2009-11-23; Pin Count: 2; Publisher: Nordic Semiconductor; Published: 2009-05-08; Supplier: Farnell; Supplier part number: 173-8831; 2nd source Supplier: *; 2nd source part number: *
footprint RESC1005X04L
pins: 1, 2

## RES_0402_2
designator R?, comment 10K
Resistor, ±1%, 0.063W; Part Number: RC0402FR-0710KL; Manufacturer: Yageo; Note: Resistor 0402 10K ±1% 0.063W; Artikkelnr Noca: 27049039; Value: 10K; Manufacturer Part Number: RC0402FR-0710KL; Datasheet: *; Footprint: 0402; LatestRevisionDate: 2009-11-23; Pin Count: 2; Publisher: Nordic Semiconductor; Published: 2009-05-08; Supplier: Farnell; Supplier part number: 173-8831; 2nd source Supplier: *; 2nd source part number: *
footprint RESC1005X04L
pins: 1, 2

## RES_0402_3
designator R?, comment 100K
Resistor, ±1%, 0.063W; Part Number: R0402-39R; Manufacturer: Yageo; Manufacturer Part Number: RC0402JR-07100KL; Note: Resistor 0402 100K ±1% 0.063W; Artikkelnr Noca: 27049039; Value: 100K; Datasheet: *; Footprint: 0402; LatestRevisionDate: 2009-11-23; Pin Count: 2; Publisher: Nordic Semiconductor; Published: 2009-05-08; Supplier: Farnell; Supplier part number: 173-8831; 2nd source Supplier: *; 2nd source part number: *
footprint RESC1005X04L
pins: 1, 2

## RES_0402_4
designator R?, comment 1M
Resistor, ±1%, 0.063W; Part Number: R0402-39R; Manufacturer: Yageo; Manufacturer Part Number: RC0402FR-071ML; Note: Resistor 0402 1M ±1% 0.063W; Artikkelnr Noca: 27049039; Value: 1M; Datasheet: *; Footprint: 0402; LatestRevisionDate: 2009-11-23; Pin Count: 2; Publisher: Nordic Semiconductor; Published: 2009-05-08; Supplier: Farnell; Supplier part number: 173-8831; 2nd source Supplier: *; 2nd source part number: *
footprint RESC1005X04L
pins: 1, 2

## RES_0402_5
designator R?, comment 120
Resistor, ±1%, 0.063W; Part Number: R0402-39R; Manufacturer: Yageo; Manufacturer Part Number: RC0402FR-07510RL; Note: Resistor 0402 510 ±1% 0.063W; Artikkelnr Noca: 27049039; Value: 120; Datasheet: *; Footprint: 0402; LatestRevisionDate: 2009-11-23; Pin Count: 2; Publisher: Nordic Semiconductor; Published: 2009-05-08; Supplier: Farnell; Supplier part number: 173-8831; 2nd source Supplier: *; 2nd source part number: *
footprint RESC1005X04L
pins: 1, 2

## RES_0402_6
designator R?, comment 1K
Resistor, ±1%, 0.063W; Part Number: R0402-39R; Manufacturer: Yageo; Manufacturer Part Number: RC0402FR-07510RL; Note: Resistor 0402 510 ±1% 0.063W; Artikkelnr Noca: 27049039; Value: 1K; Datasheet: *; Footprint: 0402; LatestRevisionDate: 2009-11-23; Pin Count: 2; Publisher: Nordic Semiconductor; Published: 2009-05-08; Supplier: Farnell; Supplier part number: 173-8831; 2nd source Supplier: *; 2nd source part number: *
footprint RESC1005X04L
pins: 1, 2

## RES_0402_7
designator R?, comment 133K
Resistor, ±1%, 0.063W; Part Number: R0402-39R; Manufacturer: Yageo; Manufacturer Part Number: RC0402FR-07133KL; Note: Resistor 0402 133K ±1% 1/16W; Artikkelnr Noca: 27049039; Value: 133K; Datasheet: *; Footprint: 0402; LatestRevisionDate: 2009-11-23; Pin Count: 2; Publisher: Nordic Semiconductor; Published: 2009-05-08; Supplier: Farnell; Supplier part number: 173-8831; 2nd source Supplier: *; 2nd source part number: *
footprint RESC1005X04L
pins: 1, 2

## RES_0402_8
designator R?, comment 18.2K
Resistor, ±1%, 0.063W; Part Number: R0402-39R; Manufacturer: Yageo; Manufacturer Part Number: RC0402FR-0718K2L; Note: Resistor 0402 18.2K 1% 1/16W; Artikkelnr Noca: 27049039; Value: 18.2K; Datasheet: *; Footprint: 0402; LatestRevisionDate: 2009-11-23; Pin Count: 2; Publisher: Nordic Semiconductor; Published: 2009-05-08; Supplier: Farnell; Supplier part number: 173-8831; 2nd source Supplier: *; 2nd source part number: *
footprint RESC1005X04L
pins: 1, 2

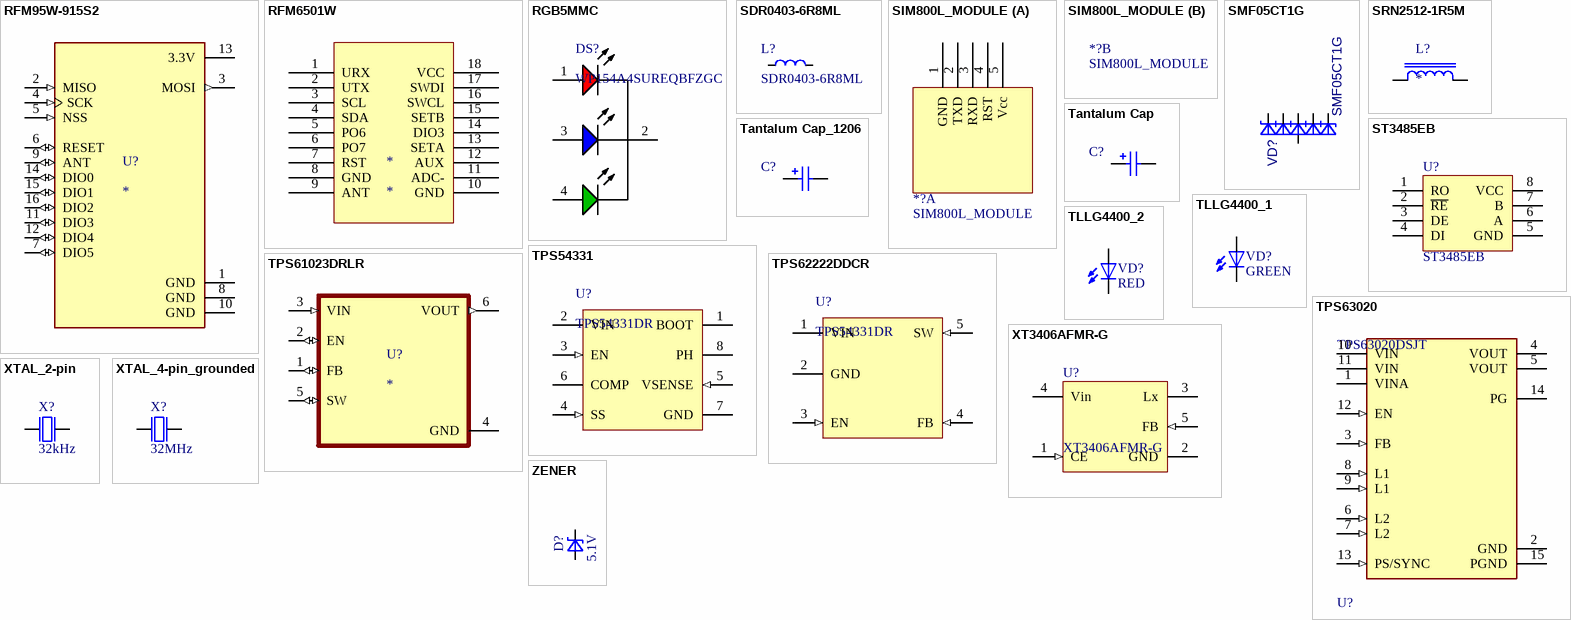
[diagram p2: symbols RFM95W-915S2 to ZENER]

## RFM95W-915S2
designator U?
RFM95(W) - Low Power Long Range Transceiver Module V1.0; MP: RFM95W-915S2; MF: {'manufacturer': u'RF Solutions'}; Package: None; Price: None; Value: *; Availability: Unavailable
footprint XCVR_RFM95W-915S2
pins: 1 GND (power), 2 MISO (in), 3 MOSI (out), 4 SCK (in), 5 NSS (in), 6 RESET (io), 7 DIO5 (io), 8 GND (power), 9 ANT (io), 10 GND (power), 11 DIO3 (io), 12 DIO4 (io), 13 3.3V (power), 14 DIO0 (io), 15 DIO1 (io), 16 DIO2 (io)

## RFM6501W
designator *
footprint RFM6501W
footprint RFM6501W - Remove
pins: 1 URX, 2 UTX, 3 SCL, 4 SDA, 5 PO6, 6 PO7, 7 RST, 8 GND, 9 ANT, 10 GND, 11 ADC-, 12 AUX, 13 SETA, 14 DIO3, 15 SETB, 16 SWCL, 17 SWDI, 18 VCC

## RGB5MMC
designator DS?, comment WP154A4SUREQBFZGC
Full Color LED Lamp, Dominant Wavelength RGB 630 / 525 / 465 nm, -40 to 85 degC, 4-Pin THD, RoHS; Manufacturer: Kingbright; Viewing Angle: 50°; Wavelength - Dominant: 630nm,525nm,465nm; Online Catalog: 5mm,T-13/4(RGB)RoundwithDomedTopLEDLamp; Millicandela Rating: 1300mcdRed,1700mcdGreen,900mcdBlue; Other Names: 754-1615 / WP154A4SUREQBFZGC-ND; Current - Test: 20mA; Wavelength - Peak: 645nm,515nm,460nm; Color: Red,Green,Blue(RGB); Voltage - Forward (Vf) (Typ): 1.9VRed,3.3VGreen,3.3VBlue; Lens Type: Clear; 3D Model: WP154A4SUREQBFZGW.sldprt / WP154A4SUREQBFZGW.pro / WP154A4SUREQBFZGW.igs / WP154A4SUREQBFZGW.stp; Lens Style/Size: RoundwithDomedTop,5mm,T-13/4; Packaging: Bulk; Datasheet URL: https://www.kingbrightusa.com/images/catalog/spec/WP154A4SUREQBFZGC.pdf; Family: LEDIndication-Discrete; Datasheet Version: Rev. 5A, 08/2014; Category: Optoelectronics; Manufacturer URL: http://www.kingbright.com/; Height: 8.60mm; Mounting Type: ThroughHole; Package Reference: WP154A4SUREQBFZGC; Mounting Technology: ThroughHole; Package Description: 4-Pin Through Hole LED, Dia 5.9 mm, Pitch 1.27 mm; Standard Package: 500; Package / Case: Radial-4Leads
footprint KING-WP154A4SUREQBFZGC_V (THD, 4-Leads, Dia 5.9mm, Pitch 1.27mm)
pins: 1 RED, 2 CATHODE, 3 BLUE, 4 GREEN

## SDR0403-6R8ML
designator L?
SDR0403 Series Power Inductor, 6.8 uF +/- 20 %, 0.12 Ohm, -40 to 125 degC, 2-Pin SMD, RoHS, Tape and Reel; Manufacturer: Bourns; I rms (A): 1.41 Max.; SRF (MHz): 40 Min.; RDC (Ohm): 0.12 Max.; Test Frequency (MHz): 7.96; Inductance (uH): 6.8; Q: 28; Tolerance (%): +/- 20; I sat (A): 2.1 Typ.; Packing: Tape and Reel; ComponentLink2Description: Datasheet; DatasheetVersion: Feb-12; PartNumber: SDR0403-6R8ML; RoHS: TRUE; ComponentLink2URL: http://www.bourns.com/data/global/pdfs/sdr0403.pdf; ComponentLink1URL: http://www.bourns.com/; PackageDescription: 3-Pin SMD, Dia 4.5 mm, Height 3.5 mm; ComponentLink1Description: Manufacturer URL; Mounting Technology: Surface Mount; PackageReference: SDR0403-2; Temperature Range: -40 to 125 degC
footprint BOUR-SDR0403-2_V (SMD, 2-Leads, Dia 4.5mm, Height 3.5mm)
pins: 1, 2

## SIM800L_MODULE
designator *?
footprint SIM800L_MODULE (Elevated Socket, 1x5 Pins, Vertical, 2.54mm Pitch, Female)
part A pins: 1 GND, 2 TXD, 3 RXD, 4 RST, 5 Vcc

## SMF05CT1G
designator VD?
TVS ARRAY 5LINE 100W 5V SC-88; Manufacturer: ON; Voltage - Breakdown: 6.2V; Polarization: 5 Channel Array - Bidirectional; Supplier 1: Digi-Key; Supplier Part Number 1: SMF05CT1GOSDKR-ND; Manufacturer Part Number: SMF05CT1G; RoHS: RoHS Compliant; Category: Circuit Protection; Stock 1: 25350; Pricing 1: 1=0.45, 10=0.35, 25=0.2956, 100=0.2408, 250=0.19944, 500=0.16474, 1000=0.1234 (USD); Voltage - Reverse Standoff (Typ): 5V; Power (Watts): 100W; Mounting Type: Surface Mount; Package / Case: 6-TSSOP, SC-88, SOT-363; Supplier Device Package: SC-88; Packaging: Digi-Reel®; ComponentLink1URL: http://www.onsemi.com/pub_link/Collateral/SMF05C-D.PDF; ComponentLink1Description: http://www.onsemi.com/pub_link/Collateral/SMF05C-D.PDF; Note: TVS ARRAY 5LINE 100W 5V SC-88; Parameter 1: *
footprint SOT363
pins: 1 C, 2 A, 3 C, 4 C, 5 C, 6 C

## SRN2512-1R5M
designator L?
Surface Mount Power Inductor, SRN2512 Series, 2.2 H, 20%, Semishielded, 0.102 ohm, 2.3 A; MP: SRN2512-1R5M; MF: {'manufacturer': u'Bourns'}; Package: None; Price: None; Value: *; Availability: Unavailable
footprint INDP2622X120N
pins: 1, 2

## ST3485EB
designator U?
IC TXRX 3.3V RS485/422 8 SOIC; Manufacturer: ST; Manufacturer Part Number: ST3485EBDR; Note: IC TXRX 3.3V RS485/422 8 SOIC
footprint SO8
pins: 1 RO (power), 2 ~{RE} (power), 3 DE (power), 4 DI (power), 5 GND (power), 6 A (power), 7 B (power), 8 VCC (power)

## Tantalum Cap
designator C?
Capacitor TANT 470uF 6.3V 20% 2917 100 mOhm; ComponentLink1Description: Manufacturer Link; ComponentLink1URL: http://www.kemet.com/; ComponentLink2Description: Datasheet; ComponentLink2URL: http://www.kemet.com/kemet/web/homepage/kechome.nsf/vapubfilesname/F3102TA.pdf/$file/F3102TA.pdf; Note: Capacitor TANT
footprint CAP_D1
footprint TAJ-B-2_N (Molded Capacitor, 2-Leads, Body 3.7x3mm, IPC Medium Density)
footprint TANT1206 (Molded Capacitor, 2-Leads, Body 3.4x1.8mm, IPC High Density)
pins: 1, 2
1 alternate drawing of the same symbol

## Tantalum Cap_1206
designator C?
Capacitor TANT 1206; ComponentLink1Description: Manufacturer Link; ComponentLink1URL: http://www.kemet.com/; ComponentLink2Description: Datasheet; ComponentLink2URL: http://www.kemet.com/kemet/web/homepage/kechome.nsf/vapubfilesname/F3102TA.pdf/$file/F3102TA.pdf; Note: Capacitor TANT
footprint TANT1206 (Molded Capacitor, 2-Leads, Body 3.4x1.8mm, IPC High Density)
pins: 1, 2
1 alternate drawing of the same symbol

## TLLG4400_1
designator VD?, comment GREEN
<b>Low Current (2mA) LED 3 mm Tinted Diffused Package</b> color <b><font color="green">GREEN</font></b><p> Source: <a href="http://www.farnell.com/datasheets/391098.pdf"> Data sheet</a>; MF: {'manufacturer': u'Vishay Semiconductor'}; MP: TLLG4400; Price: None; Value: *; Availability: Unavailable; Package: None
footprint LED3MM
pins: A, K C

## TLLG4400_2
designator VD?, comment RED
<b>Low Current (2mA) LED 3 mm Tinted Diffused Package</b> color <b><font color="green">GREEN</font></b><p> Source: <a href="http://www.farnell.com/datasheets/391098.pdf"> Data sheet</a>; MF: {'manufacturer': u'Vishay Semiconductor'}; MP: TLLG4400; Price: None; Value: *; Availability: Unavailable; Package: None
footprint LED3MM
pins: A, K C

## TPS54331
designator U?, comment TPS54331DR
Buck Step Down Regulator with 3.5 to 28 V Input and 0.8 to 25 V Output, -40 to 150 degC, 8-Pin SOIC (D), Green (RoHS & no Sb/Br); Manufacturer: Texas Instruments; Vin(Max)(V): 28; Duty Cycle(Max)(%): 90; Vin(Min)(V): 3.5; Iq(Typ)(mA): 0.11; SubFamily: Step-Down Regulator; Rating: Catalog; Iout(Max)(A): 3; Regulated Outputs(#): 1; Vout(Max)(V): 25; Vout(Min)(V): 0.8; Code_JEDEC: MS-012AA; DatasheetVersion: SLVS839D; ComponentLink3Description: URL Link1; Topology: Buck; ComponentLink2URL: http://www.ti.com/litv/pdf/msoi002j; Eco-Plan: Green (RoHS & no Sb/Br); ComponentLink1URL: http://www.ti.com/general/docs/lit/getliterature.tsp?genericPartNumber=TPS54331&fileType=pdf; Mounting Technology: Surface Mount; PartNumber: TPS54331DR; ComponentLink3URL: Samples URL:http://www.ti.com/product/tps54331#samples; ComponentLink1Description: Datasheet; PackageVersion: revM, Jun-2011; ComponentLink2Description: Package Specification; PackageDescription: 8-Pin Plastic Small Outline Integrated Circuit, 4.9 x 3.9 mm, Pitch 1.27 mm Pitch; Switch Current Limit(Typ)(A): 3.5; PackageReference: D0008A
footprint SO8
pins: 1 BOOT "A 0.1 uF bootstrap capacitor is required between BOOT and PH. If the voltage on this capacitor falls below the minimum requirement, the high-side MOSFET is forced to switch off until the capacitor is refreshed", 2 VIN (power) "Input supply voltage, 3.5 V to 28 V.", 3 EN (in) "Enable pin. Pull below 1.25V to disable. Float to enable. Programming the input undervoltage lockout with two resistors is recommended.", 4 SS (in) "Slow start pin. An external capacitor connected to this pin sets the output rise time.", 5 VSENSE (in) "Inverting node of the gm error amplifier.", 6 COMP "Error amplifier output, and input to the PWM comparator. Connect frequency compensation components to this pin.", 7 GND (power) "Ground", 8 PH (power) "The source of the internal high-side power MOSFET"

## TPS61023DRLR
designator U?
MP: TPS61023DRLR; MF: {'manufacturer': u'Texas Instruments'}; Package: None; Value: *; Price: None; Availability: Unavailable
footprint SOT50P160X60-6N
pins: 1 FB (io), 2 EN (io), 3 VIN (in), 4 GND (power), 5 SW (io), 6 VOUT (out)